# EAGLE library part OB2269 (library Circuitos-Creativos-Integrados-8pin)
Controlador de corritente por PWM
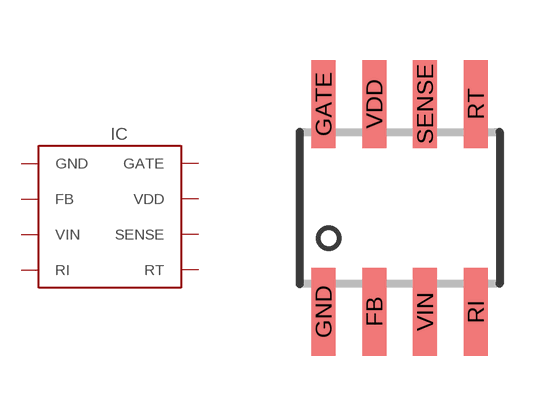
[diagram p0: symbol with the pads of SOP-8; footprint SOP-8]

Designator prefix IC

## OB2269  [SOP-8]
FB  FB
GATE  GATE
GND  GND  pwr
RI  RI
RT  RT
SENSE  SENSE
VDD  VDD  pwr
VIN  VIN

## Footprint SOP-8 (pad centres in mm)
smd 0.6 x 2.2: FB -0.635,-2.6; GATE -1.905,2.6; GND -1.905,-2.6; RI 1.905,-2.6; RT 1.905,2.6; SENSE 0.635,2.6; VDD -0.635,2.6; VIN 0.635,-2.6